# Altium schematic symbol library mini-rockets.SchLib: 2 symbols
Pins are listed as number, name and electrical type; pins without a type are passive.

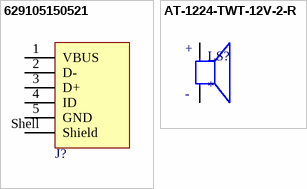
[diagram p0: symbols 629105150521 to AT-1224-TWT-12V-2-R]

## 629105150521
designator J?  (value not drawn)
WR-Micro USB 2.0 Type B, Receptacle, Horizontal, SMT, with Pegs; Manufacturer: Wurth Elektronik; Match Code: WR-USB; Interface Type: Type B; Number of Ports: 1; Rated Current: 3A; Working Voltage: 30VAC; ComponentLink1Description: Website Link; ComponentLink1URL: https://www.we-online.com/redexpert/article/629105150521?ad; ComponentLink2Description: Datasheet Link; ComponentLink2URL: https://www.we-online.com/redexpert/spec/629105150521?ad; Manufacturer Part Number: 629105150521; Category: Input/Output Connectors; Mount: Surface Mount; Operating Temperature Max: 85°C; Operating Temperature Min: -40°C; Packaging: Tape and Reel; Application: Micro USB 2.0; Gender: Receptacle; Number of Pins: 5; Orientation: Horizontal; Supplier 1: RSComponents; Supplier Part Number 1: 1225099
footprint 629105150521
pins: 1 VBUS, 2 D-, 3 D+, 4 ID, 5 GND, Shell Shield

## AT-1224-TWT-12V-2-R
designator LS?
AUDIO TRANSDUCER 12 VP-P 85 DB 2400 HZ; MP: AT-1224-TWT-12V-2-R; MF: PUI Audio,; Package: PUI Audio,; Purchase-URL: https://pricing.snapeda.com/search/part/AT-1224-TWT-12V-2-R/?ref=eda; SnapEDA_Link: https://www.snapeda.com/parts/AT-1224-TWT-12V-2-R/PUI%20Audio,%20Inc./view-part/3215877/?ref=snap; Check_prices: https://www.snapeda.com/parts/AT-1224-TWT-12V-2-R/PUI%20Audio,%20Inc./view-part/3215877/?ref=eda; Price: None; Value: *; Availability: In Stock
footprint XDCR_AT-1224-TWT-12V-2-R
pins: N, P
text: +; -